# Altium integrated library Lattice iCE40.IntLib: 53 symbols (part 3 of 5)
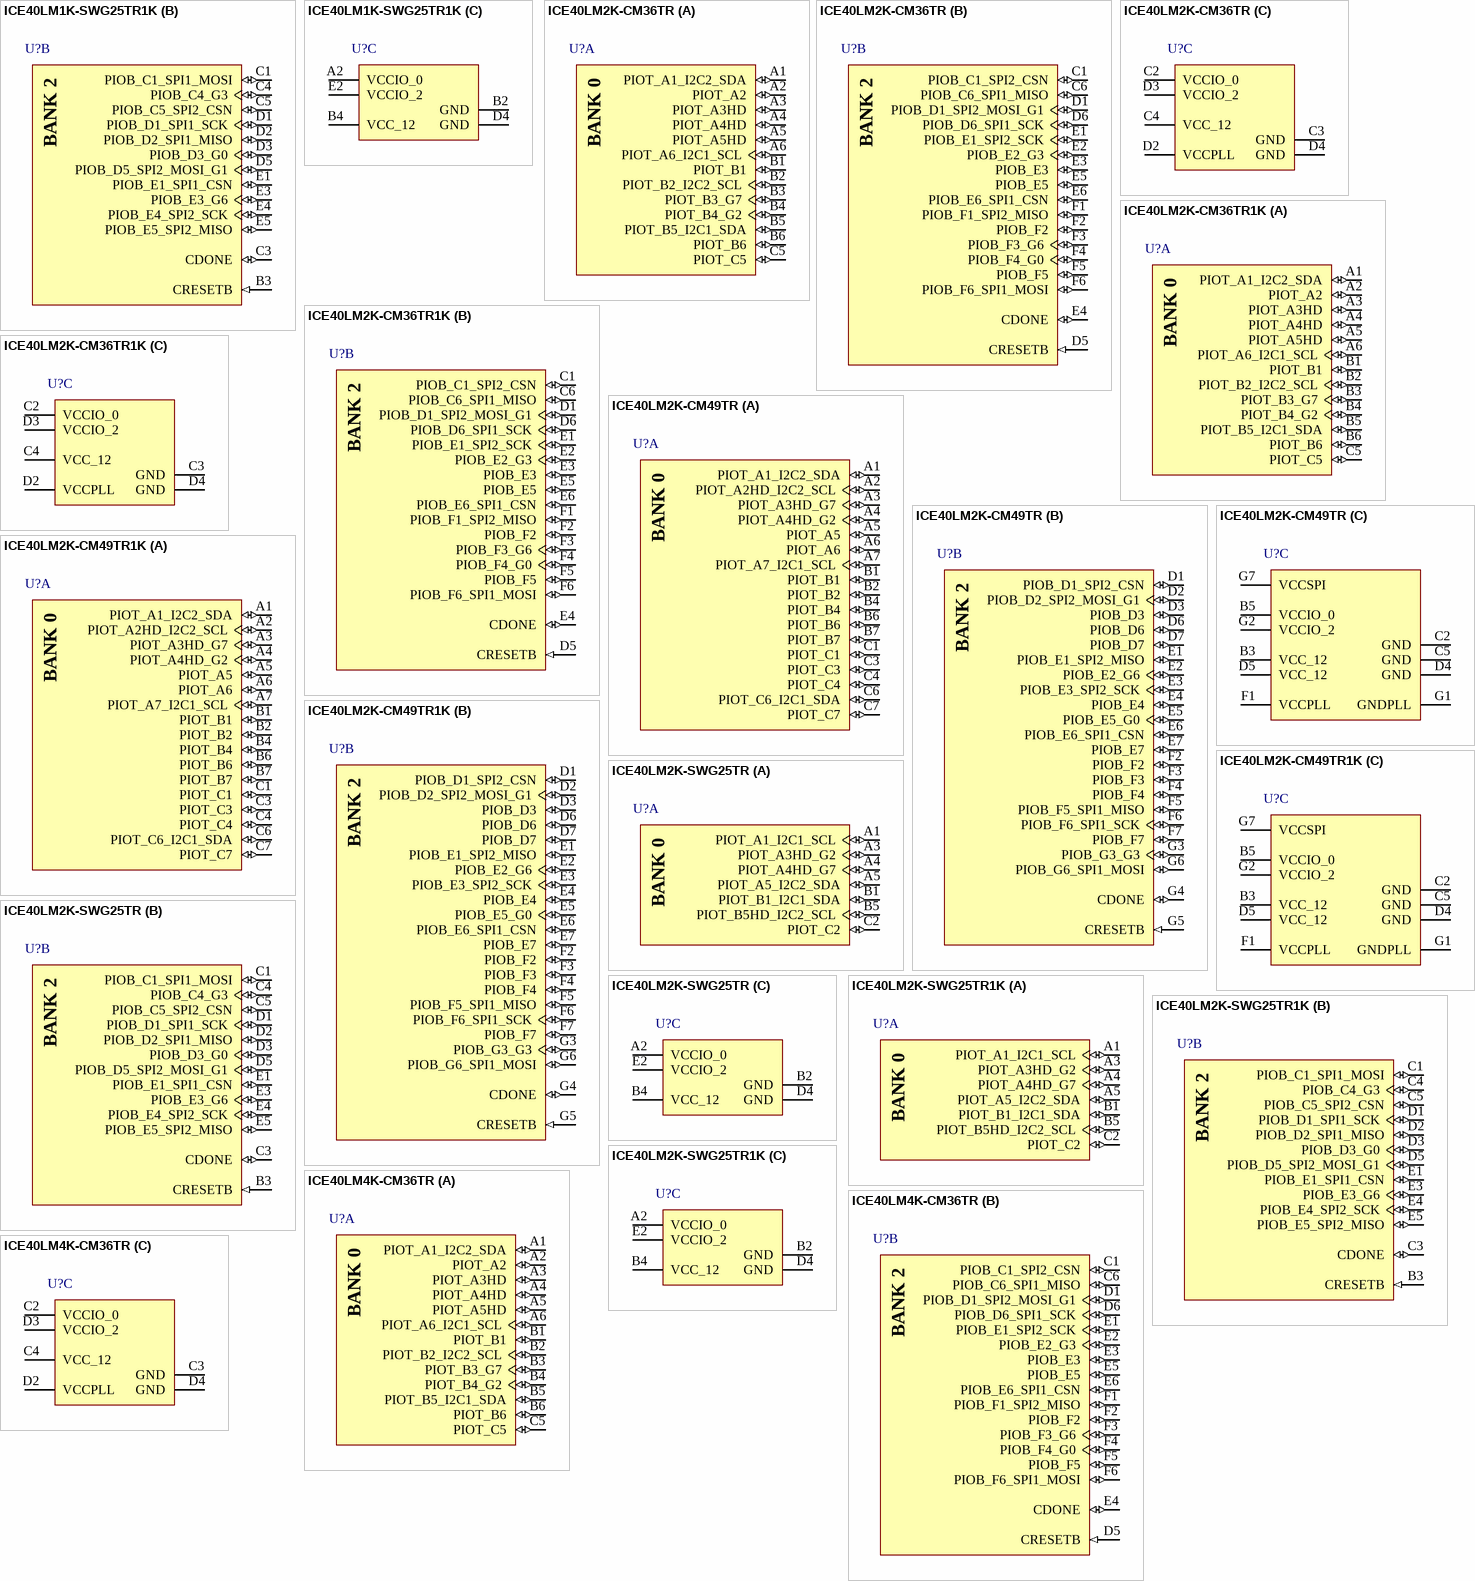
[diagram p13: symbols ICE40LM1K-SWG25TR1K to ICE40LM4K-CM36TR]

## ICE40LM4K-CM36TR
designator U?
iCE40 LM4K Series FPGA Family, 3520 Logic Cells, 1.2 V Core, 80 K Embedded RAM Bits, 36-ball ucBGA, Pb-Free, Tape and Reel; Manufacturer: Lattice Semiconductor; PartNumber: ICE40LM4K-CM36TR; 24mA Current Sink: 3; Embedded RAM Bits: 80K; High Frequency Strobe Generators: 1; I2C Cores: 2; Logic Cells: 3520; Supply Voltage: 1.2V; DatasheetVersion: Rev. 1.3; PackageVersion: Rev. 03.9, 02/2013; PackageReference: ucBGA-36; PackageDescription: 36-Ball Ultra Chip Ball Grid Array, Body 2.5 x 2.5 mm, Pitch 0.4 mm; Low Power Strobe Generators: 1; Packing: Tape and Reel; Phase-Locked Loops: 1; RoHS: TRUE; SPI Cores: 2; Mounting Technology: Surface Mount; ComponentLink1Description: Manufacturer URL; ComponentLink1URL: http://www.latticesemi.com/en; ComponentLink2Description: Datasheet; ComponentLink2URL: http://www.latticesemi.com/~/media/Documents/DataSheets/iCE/DS1045.pdf; ComponentLink3Description: Package Specification; ComponentLink3URL: http://www.latticesemi.com/lit/docs/package/pkg.pdf
footprint LATC-ucBGA-36 (ucBGA, 36-Balls, Body 2.5x2.5mm, Pitch 0.4mm)
part A pins: A1 PIOT_A1_I2C2_SDA (io), A2 PIOT_A2 (io), A3 PIOT_A3HD (io), A4 PIOT_A4HD (io), A5 PIOT_A5HD (io), A6 PIOT_A6_I2C1_SCL (io), B1 PIOT_B1 (io), B2 PIOT_B2_I2C2_SCL (io), B3 PIOT_B3_G7 (io), B4 PIOT_B4_G2 (io), B5 PIOT_B5_I2C1_SDA (io), B6 PIOT_B6 (io), C5 PIOT_C5 (io)
part B pins: C1 PIOB_C1_SPI2_CSN (io), C6 PIOB_C6_SPI1_MISO (io), D1 PIOB_D1_SPI2_MOSI_G1 (io), D5 CRESETB (in) "Configuration Reset, active LOW. No internal pull-up resistor. Either actively driven externally or connect an 10K-ohm pull-up resistor to VCCIO_2.", D6 PIOB_D6_SPI1_SCK (io), E1 PIOB_E1_SPI2_SCK (io), E2 PIOB_E2_G3 (io), E3 PIOB_E3 (io), E4 CDONE (io) "Configuration Done. Includes a weak pull-up resistor to VCCIO_2.", E5 PIOB_E5 (io), E6 PIOB_E6_SPI1_CSN (io), F1 PIOB_F1_SPI2_MISO (io), F2 PIOB_F2 (io), F3 PIOB_F3_G6 (io), F4 PIOB_F4_G0 (io), F5 PIOB_F5 (io), F6 PIOB_F6_SPI1_MOSI (io)
part C pins: C2 VCCIO_0 (power) "Power Supply for I/Os in Bank 0", C3 GND (power) "Ground", C4 VCC_12 (power), D2 VCCPLL (power) "Power supply for PLL.", D3 VCCIO_2 (power) "Power Supply for I/Os in Bank 2", D4 GND (power) "Ground"
part A text: BANK 0
part B text: BANK 2

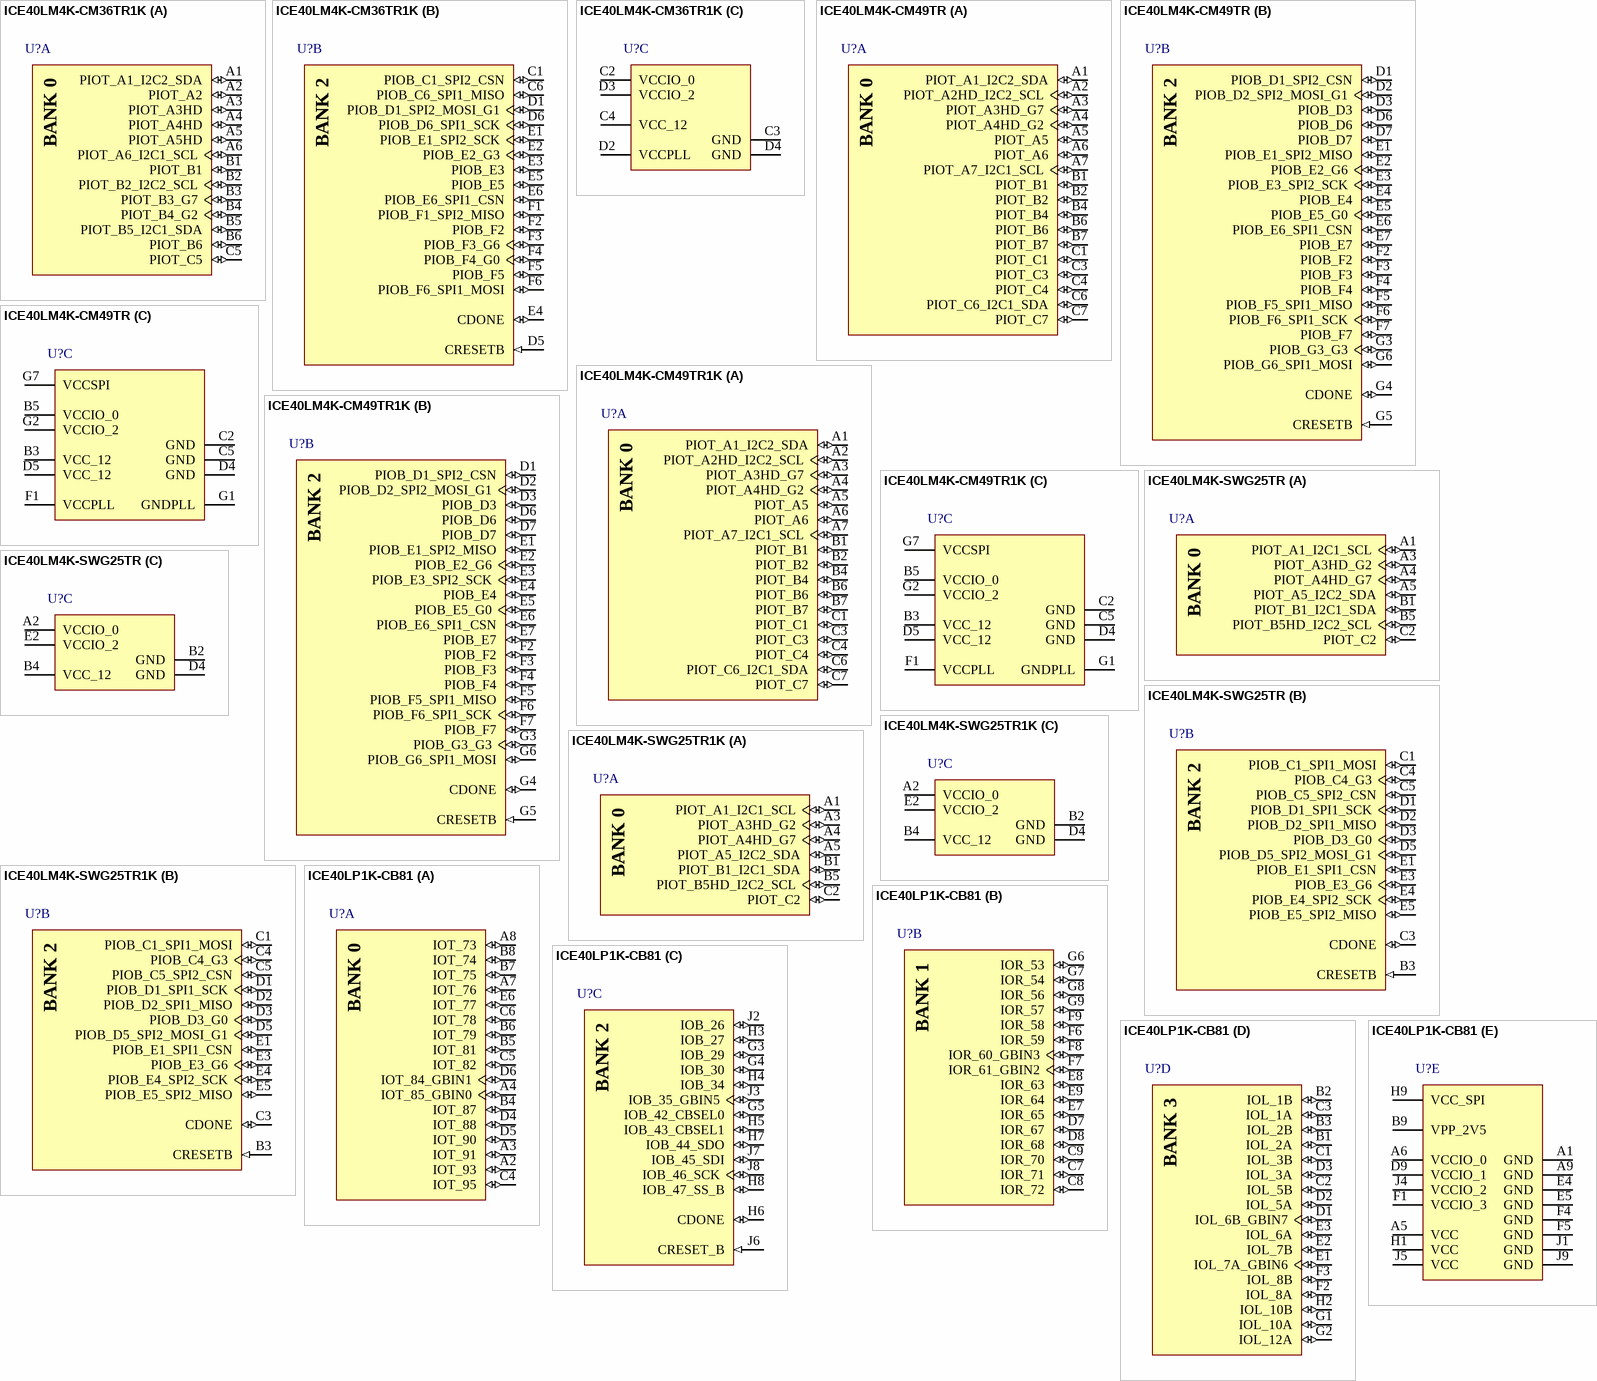
[diagram p5: symbols ICE40LM4K-CM36TR1K to ICE40LP1K-CB81]

## ICE40LM4K-CM36TR1K
designator U?
iCE40 LM4K Series FPGA Family, 3520 Logic Cells, 1.2 V Core, 80 K Embedded RAM Bits, 36-ball ucBGA, Pb-Free, Tape and Reel; Manufacturer: Lattice Semiconductor; PartNumber: ICE40LM4K-CM36TR1K; 24mA Current Sink: 3; Embedded RAM Bits: 80K; High Frequency Strobe Generators: 1; I2C Cores: 2; Logic Cells: 3520; Supply Voltage: 1.2V; DatasheetVersion: Rev. 1.3; PackageVersion: Rev. 03.9, 02/2013; PackageReference: ucBGA-36; PackageDescription: 36-Ball Ultra Chip Ball Grid Array, Body 2.5 x 2.5 mm, Pitch 0.4 mm; Low Power Strobe Generators: 1; Packing: Tape and Reel; Phase-Locked Loops: 1; RoHS: TRUE; SPI Cores: 2; Mounting Technology: Surface Mount; ComponentLink1Description: Manufacturer URL; ComponentLink1URL: http://www.latticesemi.com/en; ComponentLink2Description: Datasheet; ComponentLink2URL: http://www.latticesemi.com/~/media/Documents/DataSheets/iCE/DS1045.pdf; ComponentLink3Description: Package Specification; ComponentLink3URL: http://www.latticesemi.com/lit/docs/package/pkg.pdf
footprint LATC-ucBGA-36 (ucBGA, 36-Balls, Body 2.5x2.5mm, Pitch 0.4mm)
part A pins: A1 PIOT_A1_I2C2_SDA (io), A2 PIOT_A2 (io), A3 PIOT_A3HD (io), A4 PIOT_A4HD (io), A5 PIOT_A5HD (io), A6 PIOT_A6_I2C1_SCL (io), B1 PIOT_B1 (io), B2 PIOT_B2_I2C2_SCL (io), B3 PIOT_B3_G7 (io), B4 PIOT_B4_G2 (io), B5 PIOT_B5_I2C1_SDA (io), B6 PIOT_B6 (io), C5 PIOT_C5 (io)
part B pins: C1 PIOB_C1_SPI2_CSN (io), C6 PIOB_C6_SPI1_MISO (io), D1 PIOB_D1_SPI2_MOSI_G1 (io), D5 CRESETB (in) "Configuration Reset, active LOW. No internal pull-up resistor. Either actively driven externally or connect an 10K-ohm pull-up resistor to VCCIO_2.", D6 PIOB_D6_SPI1_SCK (io), E1 PIOB_E1_SPI2_SCK (io), E2 PIOB_E2_G3 (io), E3 PIOB_E3 (io), E4 CDONE (io) "Configuration Done. Includes a weak pull-up resistor to VCCIO_2.", E5 PIOB_E5 (io), E6 PIOB_E6_SPI1_CSN (io), F1 PIOB_F1_SPI2_MISO (io), F2 PIOB_F2 (io), F3 PIOB_F3_G6 (io), F4 PIOB_F4_G0 (io), F5 PIOB_F5 (io), F6 PIOB_F6_SPI1_MOSI (io)
part C pins: C2 VCCIO_0 (power) "Power Supply for I/Os in Bank 0", C3 GND (power) "Ground", C4 VCC_12 (power), D2 VCCPLL (power) "Power supply for PLL.", D3 VCCIO_2 (power) "Power Supply for I/Os in Bank 2", D4 GND (power) "Ground"
part A text: BANK 0
part B text: BANK 2

## ICE40LM4K-CM49TR
designator U?
iCE40 LM4K Series FPGA Family, 3520 Logic Cells, 1.2 V Core, 80 K Embedded RAM Bits, 49-ball ucBGA, Pb-Free, Tape and Reel; Manufacturer: Lattice Semiconductor; PartNumber: ICE40LM4K-CM49TR; 24mA Current Sink: 3; Embedded RAM Bits: 80K; High Frequency Strobe Generators: 1; I2C Cores: 2; Logic Cells: 3520; Supply Voltage: 1.2V; DatasheetVersion: Rev. 1.3; PackageVersion: Rev. 03.9, 02/2013; PackageReference: ucBGA-49; PackageDescription: 49-Ball Ultra Chip Ball Grid Array, Body 3 x 3 mm, Pitch 0.4 mm; Low Power Strobe Generators: 1; Packing: Tape and Reel; Phase-Locked Loops: 1; RoHS: TRUE; SPI Cores: 2; Mounting Technology: Surface Mount; ComponentLink1Description: Manufacturer URL; ComponentLink1URL: http://www.latticesemi.com/en; ComponentLink2Description: Datasheet; ComponentLink2URL: http://www.latticesemi.com/~/media/Documents/DataSheets/iCE/DS1045.pdf; ComponentLink3Description: Package Specification; ComponentLink3URL: http://www.latticesemi.com/lit/docs/package/pkg.pdf
footprint LATC-ucBGA-49 (BGA, 49-Balls, Body 3x3mm, Pitch 0.4mm)
part A pins: A1 PIOT_A1_I2C2_SDA (io), A2 PIOT_A2HD_I2C2_SCL (io), A3 PIOT_A3HD_G7 (io), A4 PIOT_A4HD_G2 (io), A5 PIOT_A5 (io), A6 PIOT_A6 (io), A7 PIOT_A7_I2C1_SCL (io), B1 PIOT_B1 (io), B2 PIOT_B2 (io), B4 PIOT_B4 (io), B6 PIOT_B6 (io), B7 PIOT_B7 (io), C1 PIOT_C1 (io), C3 PIOT_C3 (io), C4 PIOT_C4 (io), C6 PIOT_C6_I2C1_SDA (io), C7 PIOT_C7 (io)
part B pins: D1 PIOB_D1_SPI2_CSN (io), D2 PIOB_D2_SPI2_MOSI_G1 (io), D3 PIOB_D3 (io), D6 PIOB_D6 (io), D7 PIOB_D7 (io), E1 PIOB_E1_SPI2_MISO (io), E2 PIOB_E2_G6 (io), E3 PIOB_E3_SPI2_SCK (io), E4 PIOB_E4 (io), E5 PIOB_E5_G0 (io), E6 PIOB_E6_SPI1_CSN (io), E7 PIOB_E7 (io), F2 PIOB_F2 (io), F3 PIOB_F3 (io), F4 PIOB_F4 (io), F5 PIOB_F5_SPI1_MISO (io), F6 PIOB_F6_SPI1_SCK (io), F7 PIOB_F7 (io), G3 PIOB_G3_G3 (io), G4 CDONE (io) "Configuration Done. Includes a weak pull-up resistor to VCCIO_2.", G5 CRESETB (in) "Configuration Reset, active LOW. No internal pull-up resistor. Either actively driven externally or connect an 10K-ohm pull-up resistor to VCCIO_2.", G6 PIOB_G6_SPI1_MOSI (io)
part C pins: B3 VCC_12 (power), B5 VCCIO_0 (power) "Power Supply for I/Os in Bank 0", C2 GND (power) "Ground", C5 GND (power) "Ground", D4 GND (power) "Ground", D5 VCC_12 (power), F1 VCCPLL (power) "Power supply for PLL.", G1 GNDPLL (power) "Ground", G2 VCCIO_2 (power) "Power Supply for I/Os in Bank 2", G7 VCCSPI (power) "Power supply for SPI1 ports."
part A text: BANK 0
part B text: BANK 2

## ICE40LM4K-CM49TR1K
designator U?
iCE40 LM4K Series FPGA Family, 3520 Logic Cells, 1.2 V Core, 80 K Embedded RAM Bits, 49-ball ucBGA, Pb-Free, Tape and Reel; Manufacturer: Lattice Semiconductor; PartNumber: ICE40LM4K-CM49TR1K; 24mA Current Sink: 3; Embedded RAM Bits: 80K; High Frequency Strobe Generators: 1; I2C Cores: 2; Logic Cells: 3520; Supply Voltage: 1.2V; DatasheetVersion: Rev. 1.3; PackageVersion: Rev. 03.9, 02/2013; PackageReference: ucBGA-49; PackageDescription: 49-Ball Ultra Chip Ball Grid Array, Body 3 x 3 mm, Pitch 0.4 mm; Low Power Strobe Generators: 1; Packing: Tape and Reel; Phase-Locked Loops: 1; RoHS: TRUE; SPI Cores: 2; Mounting Technology: Surface Mount; ComponentLink1Description: Manufacturer URL; ComponentLink1URL: http://www.latticesemi.com/en; ComponentLink2Description: Datasheet; ComponentLink2URL: http://www.latticesemi.com/~/media/Documents/DataSheets/iCE/DS1045.pdf; ComponentLink3Description: Package Specification; ComponentLink3URL: http://www.latticesemi.com/lit/docs/package/pkg.pdf
footprint LATC-ucBGA-49 (BGA, 49-Balls, Body 3x3mm, Pitch 0.4mm)
part A pins: A1 PIOT_A1_I2C2_SDA (io), A2 PIOT_A2HD_I2C2_SCL (io), A3 PIOT_A3HD_G7 (io), A4 PIOT_A4HD_G2 (io), A5 PIOT_A5 (io), A6 PIOT_A6 (io), A7 PIOT_A7_I2C1_SCL (io), B1 PIOT_B1 (io), B2 PIOT_B2 (io), B4 PIOT_B4 (io), B6 PIOT_B6 (io), B7 PIOT_B7 (io), C1 PIOT_C1 (io), C3 PIOT_C3 (io), C4 PIOT_C4 (io), C6 PIOT_C6_I2C1_SDA (io), C7 PIOT_C7 (io)
part B pins: D1 PIOB_D1_SPI2_CSN (io), D2 PIOB_D2_SPI2_MOSI_G1 (io), D3 PIOB_D3 (io), D6 PIOB_D6 (io), D7 PIOB_D7 (io), E1 PIOB_E1_SPI2_MISO (io), E2 PIOB_E2_G6 (io), E3 PIOB_E3_SPI2_SCK (io), E4 PIOB_E4 (io), E5 PIOB_E5_G0 (io), E6 PIOB_E6_SPI1_CSN (io), E7 PIOB_E7 (io), F2 PIOB_F2 (io), F3 PIOB_F3 (io), F4 PIOB_F4 (io), F5 PIOB_F5_SPI1_MISO (io), F6 PIOB_F6_SPI1_SCK (io), F7 PIOB_F7 (io), G3 PIOB_G3_G3 (io), G4 CDONE (io) "Configuration Done. Includes a weak pull-up resistor to VCCIO_2.", G5 CRESETB (in) "Configuration Reset, active LOW. No internal pull-up resistor. Either actively driven externally or connect an 10K-ohm pull-up resistor to VCCIO_2.", G6 PIOB_G6_SPI1_MOSI (io)
part C pins: B3 VCC_12 (power), B5 VCCIO_0 (power) "Power Supply for I/Os in Bank 0", C2 GND (power) "Ground", C5 GND (power) "Ground", D4 GND (power) "Ground", D5 VCC_12 (power), F1 VCCPLL (power) "Power supply for PLL.", G1 GNDPLL (power) "Ground", G2 VCCIO_2 (power) "Power Supply for I/Os in Bank 2", G7 VCCSPI (power) "Power supply for SPI1 ports."
part A text: BANK 0
part B text: BANK 2

## ICE40LM4K-SWG25TR
designator U?
iCE40 LM4K Series FPGA Family, 3520 Logic Cells, 1.2 V Core, 80 K Embedded RAM Bits, 25-ball WLCSP, Pb-Free, Tape and Reel; Manufacturer: Lattice Semiconductor; PartNumber: ICE40LM4K-SWG25TR; 24mA Current Sink: 3; Embedded RAM Bits: 80K; High Frequency Strobe Generators: 1; I2C Cores: 2; Logic Cells: 3520; Supply Voltage: 1.2V; DatasheetVersion: Rev. 1.3; PackageVersion: Rev. 03.9, 02/2013; PackageReference: WLCSP-25; PackageDescription: 25-Ball Wafer-Level Chip Scale Package, Body 1.71 x 1.71 mm, Pitch 0.35 mm; Supplier 1: Digi-Key; Supplier Part Number 1: ICE40LM4K-SWG25TR-ND; Supplier 2: Mouser; Supplier Part Number 2: 842-ICE40LM4KSWG25TR; Low Power Strobe Generators: 1; Packing: Tape and Reel; Phase-Locked Loops: 1; RoHS: TRUE; SPI Cores: 2; Mounting Technology: Surface Mount; ComponentLink1Description: Manufacturer URL; ComponentLink1URL: http://www.latticesemi.com/en; ComponentLink2Description: Datasheet; ComponentLink2URL: http://www.latticesemi.com/~/media/Documents/DataSheets/iCE/DS1045.pdf; ComponentLink3Description: Package Specification; ComponentLink3URL: http://www.latticesemi.com/lit/docs/package/pkg.pdf
footprint LATC-WLCSP-25 (BGA, 25-Balls, Body 1.71x1.71mm, Pitch 0.35mm)
part A pins: A1 PIOT_A1_I2C1_SCL (io), A3 PIOT_A3HD_G2 (io), A4 PIOT_A4HD_G7 (io), A5 PIOT_A5_I2C2_SDA (io), B1 PIOT_B1_I2C1_SDA (io), B5 PIOT_B5HD_I2C2_SCL (io), C2 PIOT_C2 (io)
part B pins: B3 CRESETB (in) "Configuration Reset, active LOW. No internal pull-up resistor. Either actively driven externally or connect an 10K-ohm pull-up resistor to VCCIO_2.", C1 PIOB_C1_SPI1_MOSI (io), C3 CDONE (io) "Configuration Done. Includes a weak pull-up resistor to VCCIO_2.", C4 PIOB_C4_G3 (io), C5 PIOB_C5_SPI2_CSN (io), D1 PIOB_D1_SPI1_SCK (io), D2 PIOB_D2_SPI1_MISO (io), D3 PIOB_D3_G0 (io), D5 PIOB_D5_SPI2_MOSI_G1 (io), E1 PIOB_E1_SPI1_CSN (io), E3 PIOB_E3_G6 (io), E4 PIOB_E4_SPI2_SCK (io), E5 PIOB_E5_SPI2_MISO (io)
part C pins: A2 VCCIO_0 (power) "Power Supply for I/Os in Bank 0", B2 GND (power) "Ground", B4 VCC_12 (power) "Core Power Supply", D4 GND (power) "Ground", E2 VCCIO_2 (power) "Power Supply for I/Os in Bank 2"
part A text: BANK 0
part B text: BANK 2

## ICE40LM4K-SWG25TR1K
designator U?
iCE40 LM4K Series FPGA Family, 3520 Logic Cells, 1.2 V Core, 80 K Embedded RAM Bits, 25-ball WLCSP, Pb-Free, Tape and Reel; Manufacturer: Lattice Semiconductor; PartNumber: ICE40LM4K-SWG25TR1K; 24mA Current Sink: 3; Embedded RAM Bits: 80K; High Frequency Strobe Generators: 1; I2C Cores: 2; Logic Cells: 3520; Supply Voltage: 1.2V; DatasheetVersion: Rev. 1.3; PackageVersion: Rev. 03.9, 02/2013; PackageReference: WLCSP-25; PackageDescription: 25-Ball Wafer-Level Chip Scale Package, Body 1.71 x 1.71 mm, Pitch 0.35 mm; Supplier 1: Digi-Key; Supplier Part Number 1: ICE40LM4K-SWG25TR1K-ND; Supplier 2: Mouser; Supplier Part Number 2: 842-E40LM4KSWG25TR1K; Low Power Strobe Generators: 1; Packing: Tape and Reel; Phase-Locked Loops: 1; RoHS: TRUE; SPI Cores: 2; Mounting Technology: Surface Mount; ComponentLink1Description: Manufacturer URL; ComponentLink1URL: http://www.latticesemi.com/en; ComponentLink2Description: Datasheet; ComponentLink2URL: http://www.latticesemi.com/~/media/Documents/DataSheets/iCE/DS1045.pdf; ComponentLink3Description: Package Specification; ComponentLink3URL: http://www.latticesemi.com/lit/docs/package/pkg.pdf
footprint LATC-WLCSP-25 (BGA, 25-Balls, Body 1.71x1.71mm, Pitch 0.35mm)
part A pins: A1 PIOT_A1_I2C1_SCL (io), A3 PIOT_A3HD_G2 (io), A4 PIOT_A4HD_G7 (io), A5 PIOT_A5_I2C2_SDA (io), B1 PIOT_B1_I2C1_SDA (io), B5 PIOT_B5HD_I2C2_SCL (io), C2 PIOT_C2 (io)
part B pins: B3 CRESETB (in) "Configuration Reset, active LOW. No internal pull-up resistor. Either actively driven externally or connect an 10K-ohm pull-up resistor to VCCIO_2.", C1 PIOB_C1_SPI1_MOSI (io), C3 CDONE (io) "Configuration Done. Includes a weak pull-up resistor to VCCIO_2.", C4 PIOB_C4_G3 (io), C5 PIOB_C5_SPI2_CSN (io), D1 PIOB_D1_SPI1_SCK (io), D2 PIOB_D2_SPI1_MISO (io), D3 PIOB_D3_G0 (io), D5 PIOB_D5_SPI2_MOSI_G1 (io), E1 PIOB_E1_SPI1_CSN (io), E3 PIOB_E3_G6 (io), E4 PIOB_E4_SPI2_SCK (io), E5 PIOB_E5_SPI2_MISO (io)
part C pins: A2 VCCIO_0 (power) "Power Supply for I/Os in Bank 0", B2 GND (power) "Ground", B4 VCC_12 (power) "Core Power Supply", D4 GND (power) "Ground", E2 VCCIO_2 (power) "Power Supply for I/Os in Bank 2"
part A text: BANK 0
part B text: BANK 2

## ICE40LP1K-CB81
designator U?
iCE40 LP1K Series FPGA Family, 1280 Logic Cells, 1.2 V Core, 64 K Embedded RAM Bits, 81-ball csBGA, Pb-Free, Tray; Manufacturer: Lattice Semiconductor; PartNumber: ICE40LP1K-CB81; Embedded RAM Bits: 64K; Logic Cells: 1280; Phase-Locked Loops: 0; Supply Voltage: 1.2 V; DatasheetVersion: Rev. 02.9; PackageVersion: Rev. 03.9, 02/2013; PackageReference: csBGA-81; PackageDescription: 81-Ball Chip Scale Ball Grid Array, Body 5 x 5 mm, Pitch 0.5 mm; Supplier 1: Digi-Key; Supplier Part Number 1: 220-2622-ND; Supplier 2: Mouser; Supplier Part Number 2: 842-ICE40LP1K-CB81; Packing: Tray; RoHS: TRUE; Mounting Technology: Surface Mount; ComponentLink1Description: Manufacturer URL; ComponentLink1URL: http://www.latticesemi.com/en; ComponentLink2Description: Datasheet; ComponentLink2URL: http://www.latticesemi.com/~/media/Documents/DataSheets/iCE/iCE40LPHXFamilyDataSheet.pdf; ComponentLink3Description: Package Specification; ComponentLink3URL: http://www.latticesemi.com/lit/docs/package/pkg.pdf
footprint LATC-csBGA-81 (BGA, 81-Balls, Body 5x5mm, Pitch 0.5mm)
part A pins: A2 IOT_93 (io), A3 IOT_91 (io), A4 IOT_85_GBIN0 (io), A7 IOT_76 (io), A8 IOT_73 (io), B4 IOT_87 (io), B5 IOT_81 (io), B6 IOT_79 (io), B7 IOT_75 (io), B8 IOT_74 (io), C4 IOT_95 (io), C5 IOT_82 (io), C6 IOT_78 (io), D4 IOT_88 (io), D5 IOT_90 (io), D6 IOT_84_GBIN1 (io), E6 IOT_77 (io)
part B pins: C7 IOR_71 (io), C8 IOR_72 (io), C9 IOR_70 (io), D7 IOR_67 (io), D8 IOR_68 (io), E7 IOR_65 (io), E8 IOR_63 (io), E9 IOR_64 (io), F6 IOR_59 (io), F7 IOR_61_GBIN2 (io), F8 IOR_60_GBIN3 (io), F9 IOR_58 (io), G6 IOR_53 (io), G7 IOR_54 (io), G8 IOR_56 (io), G9 IOR_57 (io)
part C pins: G3 IOB_29 (io), G4 IOB_30 (io), G5 IOB_42_CBSEL0 (io), H3 IOB_27 (io), H4 IOB_34 (io), H5 IOB_43_CBSEL1 (io), H6 CDONE (io) "Configuration Done. Includes a permanent weak pull-up resistor to VCCIO_2. If driving external devices with CDONE output, an external pull-up resistor to VCCIO_2 may be required. Refer to the TN1248, iCE40 Programming and (See Datasheet)", H7 IOB_44_SDO (io), H8 IOB_47_SS_B (io), J2 IOB_26 (io), J3 IOB_35_GBIN5 (io), J6 CRESET_B (in) "Configuration Reset, active Low. Dedicated input. No internal pull-up resistor. Either actively drive externally or connect a 10 KOhm pull-up resistor to VCCIO_2.", J7 IOB_45_SDI (io), J8 IOB_46_SCK (io)
part D pins: B1 IOL_2A (io), B2 IOL_1B (io), B3 IOL_2B (io), C1 IOL_3B (io), C2 IOL_5B (io), C3 IOL_1A (io), D1 IOL_6B_GBIN7 (io), D2 IOL_5A (io), D3 IOL_3A (io), E1 IOL_7A_GBIN6 (io), E2 IOL_7B (io), E3 IOL_6A (io), F2 IOL_8A (io), F3 IOL_8B (io), G1 IOL_10A (io), G2 IOL_12A (io), H2 IOL_10B (io)
part E pins: A1 GND (power) "GND - Ground. Dedicated pins. It is recommended that all GNDs are tied together.", A5 VCC (power) "VCC - The power supply pins for core logic. Dedicated pins. It is recommended that all VCCs are tied to the same supply.", A6 VCCIO_0 (power) "VCCIO - The power supply pins for I/O Bank 0. Dedicated pins. All VCCIOs located in the same bank are tied to the same supply.", A9 GND (power) "GND - Ground. Dedicated pins. It is recommended that all GNDs are tied together.", B9 VPP_2V5 (power) "VPP_2V5 NVCM programming and operating supply", D9 VCCIO_1 (power) "VCCIO - The power supply pins for I/O Bank 1. Dedicated pins. All VCCIOs located in the same bank are tied to the same supply.", E4 GND (power) "GND - Ground. Dedicated pins. It is recommended that all GNDs are tied together.", E5 GND (power) "GND - Ground. Dedicated pins. It is recommended that all GNDs are tied together.", F1 VCCIO_3 (power) "VCCIO - The power supply pins for I/O Bank 3. Dedicated pins. All VCCIOs located in the same bank are tied to the same supply.", F4 GND (power) "GND - Ground. Dedicated pins. It is recommended that all GNDs are tied together.", F5 GND (power) "GND - Ground. Dedicated pins. It is recommended that all GNDs are tied together.", H1 VCC (power) "VCC - The power supply pins for core logic. Dedicated pins. It is recommended that all VCCs are tied to the same supply.", H9 VCC_SPI (power) "SPI interface voltage supply input. Must have a valid voltage even if configuring from NVCM.", J1 GND (power) "GND - Ground. Dedicated pins. It is recommended that all GNDs are tied together.", J4 VCCIO_2 (power) "VCCIO - The power supply pins for I/O Bank 2. Dedicated pins. All VCCIOs located in the same bank are tied to the same supply.", J5 VCC (power) "VCC - The power supply pins for core logic. Dedicated pins. It is recommended that all VCCs are tied to the same supply.", J9 GND (power) "GND - Ground. Dedicated pins. It is recommended that all GNDs are tied together."
part A text: BANK 0
part B text: BANK 1
part C text: BANK 2
part D text: BANK 3

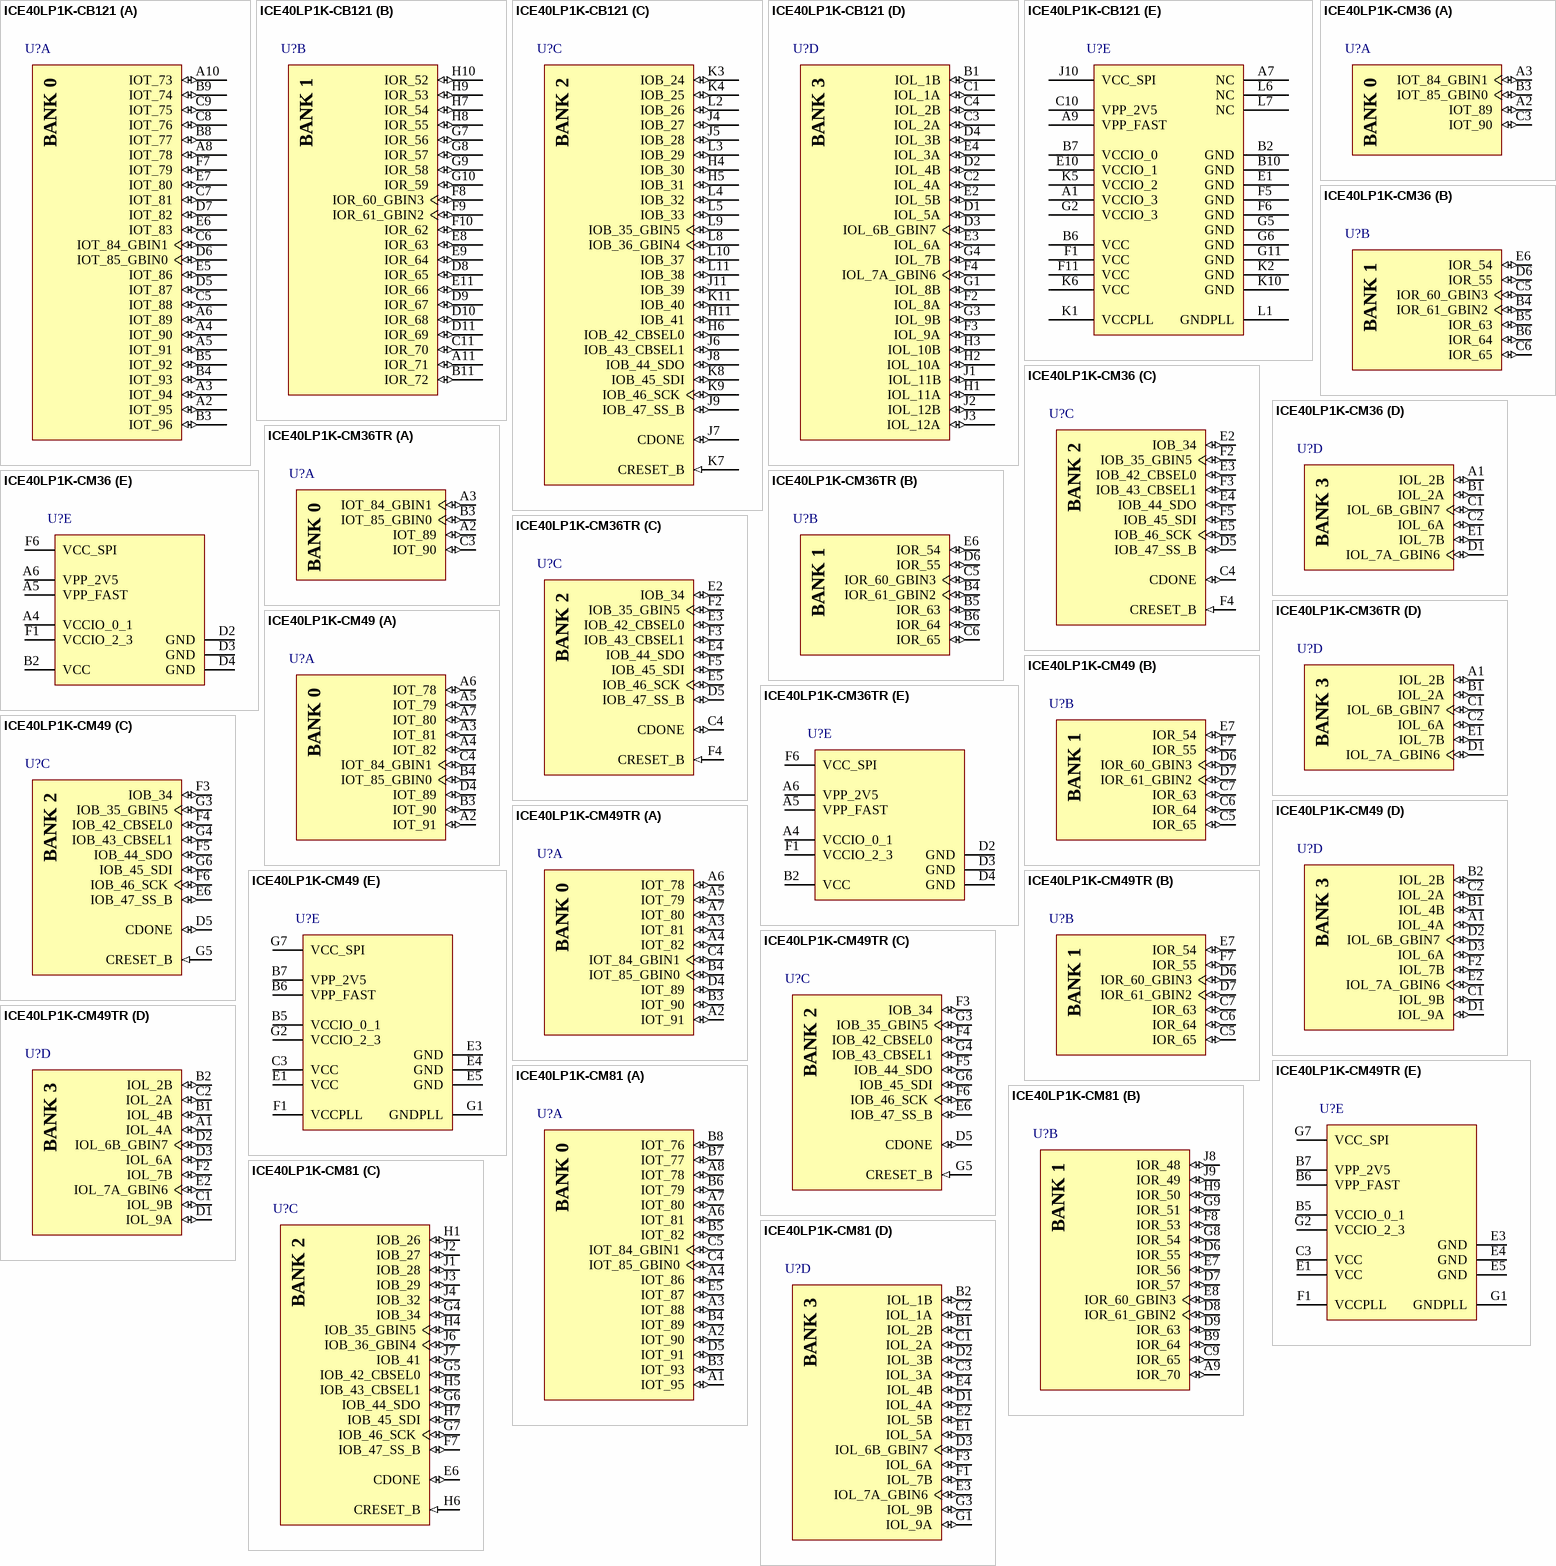
[diagram p6: symbols ICE40LP1K-CB121 to ICE40LP1K-CM81]

## ICE40LP1K-CB121
designator U?
iCE40 LP1K Series FPGA Family, 1280 Logic Cells, 1.2 V Core, 64 K Embedded RAM Bits, 121-ball csBGA, Pb-Free, Tray; Manufacturer: Lattice Semiconductor; PartNumber: ICE40LP1K-CB121; Embedded RAM Bits: 64K; Logic Cells: 1280; Phase-Locked Loops: 1; Supply Voltage: 1.2 V; DatasheetVersion: Rev. 02.9; PackageVersion: Rev. 03.9, 02/2013; PackageReference: csBGA-121; PackageDescription: 121-Ball Chip Scale Ball Grid Array, Body 6 x 6 mm, Pitch 0.5 mm; Supplier 1: Digi-Key; Supplier Part Number 1: 220-2621-ND; Supplier 2: Mouser; Supplier Part Number 2: 842-ICE40LP1K-CB121; Packing: Tray; RoHS: TRUE; Mounting Technology: Surface Mount; ComponentLink1Description: Manufacturer URL; ComponentLink1URL: http://www.latticesemi.com/en; ComponentLink2Description: Datasheet; ComponentLink2URL: http://www.latticesemi.com/~/media/Documents/DataSheets/iCE/iCE40LPHXFamilyDataSheet.pdf; ComponentLink3Description: Package Specification; ComponentLink3URL: http://www.latticesemi.com/lit/docs/package/pkg.pdf
footprint LATC-csBGA-121 (BGA, 121-Balls, Body 6x6mm, Pitch 0.5mm)
part A pins: A2 IOT_95 (io), A3 IOT_94 (io), A4 IOT_90 (io), A5 IOT_91 (io), A6 IOT_89 (io), A8 IOT_78 (io), A10 IOT_73 (io), B3 IOT_96 (io), B4 IOT_93 (io), B5 IOT_92 (io), B8 IOT_77 (io), B9 IOT_74 (io), C5 IOT_88 (io), C6 IOT_84_GBIN1 (io), C7 IOT_81 (io), C8 IOT_76 (io), C9 IOT_75 (io), D5 IOT_87 (io), D6 IOT_85_GBIN0 (io), D7 IOT_82 (io), E5 IOT_86 (io), E6 IOT_83 (io), E7 IOT_80 (io), F7 IOT_79 (io)
part B pins: A11 IOR_71 (io), B11 IOR_72 (io), C11 IOR_70 (io), D8 IOR_65 (io), D9 IOR_67 (io), D10 IOR_68 (io), D11 IOR_69 (io), E8 IOR_63 (io), E9 IOR_64 (io), E11 IOR_66 (io), F8 IOR_60_GBIN3 (io), F9 IOR_61_GBIN2 (io), F10 IOR_62 (io), G7 IOR_56 (io), G8 IOR_57 (io), G9 IOR_58 (io), G10 IOR_59 (io), H7 IOR_54 (io), H8 IOR_55 (io), H9 IOR_53 (io), H10 IOR_52 (io)
part C pins: H4 IOB_30 (io), H5 IOB_31 (io), H6 IOB_42_CBSEL0 (io), H11 IOB_41 (io), J4 IOB_27 (io), J5 IOB_28 (io), J6 IOB_43_CBSEL1 (io), J7 CDONE (io) "Configuration Done. Includes a permanent weak pull-up resistor to VCCIO_2. If driving external devices with CDONE output, an external pull-up resistor to VCCIO_2 may be required. Refer to the TN1248, iCE40 Programming and (See Datasheet)", J8 IOB_44_SDO (io), J9 IOB_47_SS_B (io), J11 IOB_39 (io), K3 IOB_24 (io), K4 IOB_25 (io), K7 CRESET_B (in) "Configuration Reset, active Low. Dedicated input. No internal pull-up resistor. Either actively drive externally or connect a 10 KOhm pull-up resistor to VCCIO_2.", K8 IOB_45_SDI (io), K9 IOB_46_SCK (io), K11 IOB_40 (io), L2 IOB_26 (io), L3 IOB_29 (io), L4 IOB_32 (io), L5 IOB_33 (io), L8 IOB_36_GBIN4 (io), L9 IOB_35_GBIN5 (io), L10 IOB_37 (io), L11 IOB_38 (io)
part D pins: B1 IOL_1B (io), C1 IOL_1A (io), C2 IOL_4A (io), C3 IOL_2A (io), C4 IOL_2B (io), D1 IOL_5A (io), D2 IOL_4B (io), D3 IOL_6B_GBIN7 (io), D4 IOL_3B (io), E2 IOL_5B (io), E3 IOL_6A (io), E4 IOL_3A (io), F2 IOL_8A (io), F3 IOL_9A (io), F4 IOL_7A_GBIN6 (io), G1 IOL_8B (io), G3 IOL_9B (io), G4 IOL_7B (io), H1 IOL_11A (io), H2 IOL_10A (io), H3 IOL_10B (io), J1 IOL_11B (io), J2 IOL_12B (io), J3 IOL_12A (io)
part E pins: A1 VCCIO_3 (power) "VCCIO - The power supply pins for I/O Bank 3. Dedicated pins. All VCCIOs located in the same bank are tied to the same supply.", A7 NC "No connect", A9 VPP_FAST (power) "Optional fast NVCM programming supply. VPP_FAST, used only for fast production programming, must be left floating or unconnected in applications, except CM36 and CM49 packages MUST have the VPP_FAST ball connected to VCCIO_0 (See Datasheet)", B2 GND (power) "GND - Ground. Dedicated pins. It is recommended that all GNDs are tied together.", B6 VCC (power) "VCC - The power supply pins for core logic. Dedicated pins. It is recommended that all VCCs are tied to the same supply.", B7 VCCIO_0 (power) "VCCIO - The power supply pins for I/O Bank 0. Dedicated pins. All VCCIOs located in the same bank are tied to the same supply.", B10 GND (power) "GND - Ground. Dedicated pins. It is recommended that all GNDs are tied together.", C10 VPP_2V5 (power) "VPP_2V5 NVCM programming and operating supply", E1 GND (power) "GND - Ground. Dedicated pins. It is recommended that all GNDs are tied together.", E10 VCCIO_1 (power) "VCCIO - The power supply pins for I/O Bank 1. Dedicated pins. All VCCIOs located in the same bank are tied to the same supply.", F1 VCC (power) "VCC - The power supply pins for core logic. Dedicated pins. It is recommended that all VCCs are tied to the same supply.", F5 GND (power) "GND - Ground. Dedicated pins. It is recommended that all GNDs are tied together.", F6 GND (power) "GND - Ground. Dedicated pins. It is recommended that all GNDs are tied together.", F11 VCC (power) "VCC - The power supply pins for core logic. Dedicated pins. It is recommended that all VCCs are tied to the same supply.", G2 VCCIO_3 (power) "VCCIO - The power supply pins for I/O Bank 3. Dedicated pins. All VCCIOs located in the same bank are tied to the same supply.", G5 GND (power) "GND - Ground. Dedicated pins. It is recommended that all GNDs are tied together.", G6 GND (power) "GND - Ground. Dedicated pins. It is recommended that all GNDs are tied together.", G11 GND (power) "GND - Ground. Dedicated pins. It is recommended that all GNDs are tied together.", J10 VCC_SPI (power) "SPI interface voltage supply input. Must have a valid voltage even if configuring from NVCM.", K1 VCCPLL (power) "PLL VCC - Power. Dedicated pins. The PLL requires a separate power and ground that is quiet and stable to reduce the output clock jitter of the PLL.", K2 GND (power) "GND - Ground. Dedicated pins. It is recommended that all GNDs are tied together.", K5 VCCIO_2 (power) "VCCIO - The power supply pins for I/O Bank 2. Dedicated pins. All VCCIOs located in the same bank are tied to the same supply.", K6 VCC (power) "VCC - The power supply pins for core logic. Dedicated pins. It is recommended that all VCCs are tied to the same supply.", K10 GND (power) "GND - Ground. Dedicated pins. It is recommended that all GNDs are tied together.", L1 GNDPLL (power) "PLL GND - Ground. Dedicated pins. The sysCLOCK PLL has the DC ground connection made on the FPGA, so the external PLL ground connection (GNDPLL) must NOT be connected to the board’s ground.", L6 NC "No connect", L7 NC "No connect"
part A text: BANK 0
part B text: BANK 1
part C text: BANK 2
part D text: BANK 3

## ICE40LP1K-CM36
designator U?
iCE40 LP1K Series FPGA Family, 1280 Logic Cells, 1.2 V Core, 64 K Embedded RAM Bits, 36-ball ucBGA, Pb-Free, Tray; Manufacturer: Lattice Semiconductor; PartNumber: ICE40LP1K-CM36; Embedded RAM Bits: 64K; Logic Cells: 1280; Phase-Locked Loops: 0; Supply Voltage: 1.2 V; DatasheetVersion: Rev. 02.9; PackageVersion: Rev. 03.9, 02/2013; PackageReference: ucBGA-36; PackageDescription: 36-Ball Ultra Chip Ball Grid Array, Body 2.5 x 2.5 mm, Pitch 0.4 mm; Supplier 1: Digi-Key; Supplier Part Number 1: 220-1564-ND; Supplier 2: Farnell; Supplier Part Number 2: 2252861; Supplier 3: Newark; Supplier Part Number 3: 48W5881; Supplier 4: Mouser; Supplier Part Number 4: 842-ICE40LP1K-CM36; Packing: Tray; RoHS: TRUE; Mounting Technology: Surface Mount; ComponentLink1Description: Manufacturer URL; ComponentLink1URL: http://www.latticesemi.com/en; ComponentLink2Description: Datasheet; ComponentLink2URL: http://www.latticesemi.com/~/media/Documents/DataSheets/iCE/iCE40LPHXFamilyDataSheet.pdf; ComponentLink3Description: Package Specification; ComponentLink3URL: http://www.latticesemi.com/lit/docs/package/pkg.pdf
footprint LATC-ucBGA-36 (ucBGA, 36-Balls, Body 2.5x2.5mm, Pitch 0.4mm)
part A pins: A2 IOT_89 (io), A3 IOT_84_GBIN1 (io), B3 IOT_85_GBIN0 (io), C3 IOT_90 (io)
part B pins: B4 IOR_61_GBIN2 (io), B5 IOR_63 (io), B6 IOR_64 (io), C5 IOR_60_GBIN3 (io), C6 IOR_65 (io), D6 IOR_55 (io), E6 IOR_54 (io)
part C pins: C4 CDONE (io) "Configuration Done. Includes a permanent weak pull-up resistor to VCCIO_2. If driving external devices with CDONE output, an external pull-up resistor to VCCIO_2  may be required. Refer to the TN1248, iCE40 Programming and (See Datasheet)", D5 IOB_47_SS_B (io), E2 IOB_34 (io), E3 IOB_42_CBSEL0 (io), E4 IOB_44_SDO (io), E5 IOB_46_SCK (io), F2 IOB_35_GBIN5 (io), F3 IOB_43_CBSEL1 (io), F4 CRESET_B (in) "Configuration Reset, active Low. Dedicated input. No internal pull-up resistor. Either  actively drive externally or connect a 10 KOhm pull-up resistor to VCCIO_2.", F5 IOB_45_SDI (io)
part D pins: A1 IOL_2B (io), B1 IOL_2A (io), C1 IOL_6B_GBIN7 (io), C2 IOL_6A (io), D1 IOL_7A_GBIN6 (io), E1 IOL_7B (io)
part E pins: A4 VCCIO_0_1 (power) "VCCIO - The power supply pins for I/O Bank 0, 1. Dedicated pins. All VCCIOs located  in the same bank are tied to the same supply.", A5 VPP_FAST (power) "Optional fast NVCM programming supply. VPP_FAST, used only for fast production programming, must be left floating or unconnected in applications, except CM36 and CM49 packages MUST have the VPP_FAST ball connected to VCCIO_0 (See Datasheet)", A6 VPP_2V5 (power) "VPP_2V5 NVCM programming and operating supply", B2 VCC (power) "VCC - The power supply pins for core logic. Dedicated pins. It is recommended that all VCCs are tied to the same supply.", D2 GND (power) "GND - Ground. Dedicated pins. It is recommended that all GNDs are tied together", D3 GND (power) "GND - Ground. Dedicated pins. It is recommended that all GNDs are tied together", D4 GND (power) "GND - Ground. Dedicated pins. It is recommended that all GNDs are tied together", F1 VCCIO_2_3 (power) "VCCIO - The power supply pins for I/O Bank 2, 3. Dedicated pins. All VCCIOs located in the same bank are tied to the same supply.", F6 VCC_SPI (power) "SPI interface voltage supply input. Must have a valid voltage even if configuring from NVCM."
part A text: BANK 0
part B text: BANK 1
part C text: BANK 2
part D text: BANK 3

## ICE40LP1K-CM36TR
designator U?
iCE40 LP1K Series FPGA Family, 1280 Logic Cells, 1.2 V Core, 64 K Embedded RAM Bits, 36-ball ucBGA, Pb-Free, Tape and Reel; Manufacturer: Lattice Semiconductor; PartNumber: ICE40LP1K-CM36TR; Embedded RAM Bits: 64K; Logic Cells: 1280; Phase-Locked Loops: 0; Supply Voltage: 1.2 V; DatasheetVersion: Rev. 02.9; PackageVersion: Rev. 03.9, 02/2013; PackageReference: ucBGA-36; PackageDescription: 36-Ball Ultra Chip Ball Grid Array, Body 2.5 x 2.5 mm, Pitch 0.4 mm; Supplier 1: Digi-Key; Supplier Part Number 1: ICE40LP1K-CM36TR-ND; Supplier 2: Mouser; Supplier Part Number 2: 842-ICE40LP1K-CM36TR; Packing: Tape and Reel; RoHS: TRUE; Mounting Technology: Surface Mount; ComponentLink1Description: Manufacturer URL; ComponentLink1URL: http://www.latticesemi.com/en; ComponentLink2Description: Datasheet; ComponentLink2URL: http://www.latticesemi.com/~/media/Documents/DataSheets/iCE/iCE40LPHXFamilyDataSheet.pdf; ComponentLink3Description: Package Specification; ComponentLink3URL: http://www.latticesemi.com/lit/docs/package/pkg.pdf
footprint LATC-ucBGA-36 (ucBGA, 36-Balls, Body 2.5x2.5mm, Pitch 0.4mm)
part A pins: A2 IOT_89 (io), A3 IOT_84_GBIN1 (io), B3 IOT_85_GBIN0 (io), C3 IOT_90 (io)
part B pins: B4 IOR_61_GBIN2 (io), B5 IOR_63 (io), B6 IOR_64 (io), C5 IOR_60_GBIN3 (io), C6 IOR_65 (io), D6 IOR_55 (io), E6 IOR_54 (io)
part C pins: C4 CDONE (io) "Configuration Done. Includes a permanent weak pull-up resistor to VCCIO_2. If driving external devices with CDONE output, an external pull-up resistor to VCCIO_2  may be required. Refer to the TN1248, iCE40 Programming and (See Datasheet)", D5 IOB_47_SS_B (io), E2 IOB_34 (io), E3 IOB_42_CBSEL0 (io), E4 IOB_44_SDO (io), E5 IOB_46_SCK (io), F2 IOB_35_GBIN5 (io), F3 IOB_43_CBSEL1 (io), F4 CRESET_B (in) "Configuration Reset, active Low. Dedicated input. No internal pull-up resistor. Either  actively drive externally or connect a 10 KOhm pull-up resistor to VCCIO_2.", F5 IOB_45_SDI (io)
part D pins: A1 IOL_2B (io), B1 IOL_2A (io), C1 IOL_6B_GBIN7 (io), C2 IOL_6A (io), D1 IOL_7A_GBIN6 (io), E1 IOL_7B (io)
part E pins: A4 VCCIO_0_1 (power) "VCCIO - The power supply pins for I/O Bank 0, 1. Dedicated pins. All VCCIOs located  in the same bank are tied to the same supply.", A5 VPP_FAST (power) "Optional fast NVCM programming supply. VPP_FAST, used only for fast production programming, must be left floating or unconnected in applications, except CM36 and CM49 packages MUST have the VPP_FAST ball connected to VCCIO_0 (See Datasheet)", A6 VPP_2V5 (power) "VPP_2V5 NVCM programming and operating supply", B2 VCC (power) "VCC - The power supply pins for core logic. Dedicated pins. It is recommended that all VCCs are tied to the same supply.", D2 GND (power) "GND - Ground. Dedicated pins. It is recommended that all GNDs are tied together", D3 GND (power) "GND - Ground. Dedicated pins. It is recommended that all GNDs are tied together", D4 GND (power) "GND - Ground. Dedicated pins. It is recommended that all GNDs are tied together", F1 VCCIO_2_3 (power) "VCCIO - The power supply pins for I/O Bank 2, 3. Dedicated pins. All VCCIOs located in the same bank are tied to the same supply.", F6 VCC_SPI (power) "SPI interface voltage supply input. Must have a valid voltage even if configuring from NVCM."
part A text: BANK 0
part B text: BANK 1
part C text: BANK 2
part D text: BANK 3

## ICE40LP1K-CM49
designator U?
iCE40 LP1K Series FPGA Family, 1280 Logic Cells, 1.2 V Core, 64 K Embedded RAM Bits, 49-ball ucBGA, Pb-Free, Tray; Manufacturer: Lattice Semiconductor; PartNumber: ICE40LP1K-CM49; Embedded RAM Bits: 64K; Logic Cells: 1280; Phase-Locked Loops: 0; Supply Voltage: 1.2 V; DatasheetVersion: Rev. 02.9; PackageVersion: Rev. 03.9, 02/2013; PackageReference: ucBGA-49; PackageDescription: 49-Ball Ultra Chip Ball Grid Array, Body 3 x 3 mm, Pitch 0.4 mm; Supplier 1: Digi-Key; Supplier Part Number 1: 220-1563-ND; Supplier 2: Mouser; Supplier Part Number 2: 842-ICE40LP1K-CM49; Packing: Tray; RoHS: TRUE; Mounting Technology: Surface Mount; ComponentLink1Description: Manufacturer URL; ComponentLink1URL: http://www.latticesemi.com/en; ComponentLink2Description: Datasheet; ComponentLink2URL: http://www.latticesemi.com/~/media/Documents/DataSheets/iCE/iCE40LPHXFamilyDataSheet.pdf; ComponentLink3Description: Package Specification; ComponentLink3URL: http://www.latticesemi.com/lit/docs/package/pkg.pdf
footprint LATC-ucBGA-49 (BGA, 49-Balls, Body 3x3mm, Pitch 0.4mm)
part A pins: A2 IOT_91 (io), A3 IOT_81 (io), A4 IOT_82 (io), A5 IOT_79 (io), A6 IOT_78 (io), A7 IOT_80 (io), B3 IOT_90 (io), B4 IOT_85_GBIN0 (io), C4 IOT_84_GBIN1 (io), D4 IOT_89 (io)
part B pins: C5 IOR_65 (io), C6 IOR_64 (io), C7 IOR_63 (io), D6 IOR_60_GBIN3 (io), D7 IOR_61_GBIN2 (io), E7 IOR_54 (io), F7 IOR_55 (io)
part C pins: D5 CDONE (io) "Configuration Done. Includes a permanent weak pull-up resistor to VCCIO_2. If driving external devices with CDONE output, an external pull-up resistor to VCCIO_2  may be required. Refer to the TN1248, iCE40 Programming and (See Datasheet)", E6 IOB_47_SS_B (io), F3 IOB_34 (io), F4 IOB_42_CBSEL0 (io), F5 IOB_44_SDO (io), F6 IOB_46_SCK (io), G3 IOB_35_GBIN5 (io), G4 IOB_43_CBSEL1 (io), G5 CRESET_B (in) "Configuration Reset, active Low. Dedicated input. No internal pull-up resistor. Either  actively drive externally or connect a 10 KOhm pull-up resistor to VCCIO_2.", G6 IOB_45_SDI (io)
part D pins: A1 IOL_4A (io), B1 IOL_4B (io), B2 IOL_2B (io), C1 IOL_9B (io), C2 IOL_2A (io), D1 IOL_9A (io), D2 IOL_6B_GBIN7 (io), D3 IOL_6A (io), E2 IOL_7A_GBIN6 (io), F2 IOL_7B (io)
part E pins: B5 VCCIO_0_1 (power) "VCCIO - The power supply pins for I/O Bank 0, 1. Dedicated pins. All VCCIOs located  in the same bank are tied to the same supply.", B6 VPP_FAST (power) "Optional fast NVCM programming supply. VPP_FAST, used only for fast production programming, must be left floating or unconnected in applications, except CM36 and CM49 packages MUST have the VPP_FAST ball connected to VCCIO_0 (See Datasheet)", B7 VPP_2V5 (power) "VPP_2V5 NVCM programming and operating supply", C3 VCC (power) "VCC - The power supply pins for core logic. Dedicated pins. It is recommended that  all VCCs are tied to the same supply.", E1 VCC (power) "VCC - The power supply pins for core logic. Dedicated pins. It is recommended that  all VCCs are tied to the same supply.", E3 GND (power) "GND - Ground. Dedicated pins. It is recommended that all GNDs are tied together", E4 GND (power) "GND - Ground. Dedicated pins. It is recommended that all GNDs are tied together", E5 GND (power) "GND - Ground. Dedicated pins. It is recommended that all GNDs are tied together", F1 VCCPLL (power) "PLL VCC - Power. Dedicated pins. The PLL requires a separate power and ground that is quiet and stable to reduce the output clock jitter of the PLL.", G1 GNDPLL (power) "PLL GND - Ground. Dedicated pins. The sysCLOCK PLL has the DC ground connection made on the FPGA, so the external PLL ground connection (GNDPLL) must  NOT be connected to the board’s ground.", G2 VCCIO_2_3 (power) "VCCIO - The power supply pins for I/O Bank 2, 3. Dedicated pins. All VCCIOs located in the same bank are tied to the same supply.", G7 VCC_SPI (power) "SPI interface voltage supply input. Must have a valid voltage even if configuring from NVCM."
part A text: BANK 0
part B text: BANK 1
part C text: BANK 2
part D text: BANK 3

## ICE40LP1K-CM49TR
designator U?
iCE40 LP1K Series FPGA Family, 1280 Logic Cells, 1.2 V Core, 64 K Embedded RAM Bits, 49-ball ucBGA, Pb-Free, Tape and Reel; Manufacturer: Lattice Semiconductor; PartNumber: ICE40LP1K-CM49TR; Embedded RAM Bits: 64K; Logic Cells: 1280; Phase-Locked Loops: 1; Supply Voltage: 1.2 V; DatasheetVersion: Rev. 02.9; PackageVersion: Rev. 03.9, 02/2013; PackageReference: ucBGA-49; PackageDescription: 49-Ball Ultra Chip Ball Grid Array, Body 3 x 3 mm, Pitch 0.4 mm; Supplier 1: Digi-Key; Supplier Part Number 1: ICE40LP1K-CM49TR-ND; Supplier 2: Mouser; Supplier Part Number 2: 842-ICE40LP1K-CM49TR; Packing: Tape and Reel; RoHS: TRUE; Mounting Technology: Surface Mount; ComponentLink1Description: Manufacturer URL; ComponentLink1URL: http://www.latticesemi.com/en; ComponentLink2Description: Datasheet; ComponentLink2URL: http://www.latticesemi.com/~/media/Documents/DataSheets/iCE/iCE40LPHXFamilyDataSheet.pdf; ComponentLink3Description: Package Specification; ComponentLink3URL: http://www.latticesemi.com/lit/docs/package/pkg.pdf
footprint LATC-ucBGA-49 (BGA, 49-Balls, Body 3x3mm, Pitch 0.4mm)
part A pins: A2 IOT_91 (io), A3 IOT_81 (io), A4 IOT_82 (io), A5 IOT_79 (io), A6 IOT_78 (io), A7 IOT_80 (io), B3 IOT_90 (io), B4 IOT_85_GBIN0 (io), C4 IOT_84_GBIN1 (io), D4 IOT_89 (io)
part B pins: C5 IOR_65 (io), C6 IOR_64 (io), C7 IOR_63 (io), D6 IOR_60_GBIN3 (io), D7 IOR_61_GBIN2 (io), E7 IOR_54 (io), F7 IOR_55 (io)
part C pins: D5 CDONE (io) "Configuration Done. Includes a permanent weak pull-up resistor to VCCIO_2. If driving external devices with CDONE output, an external pull-up resistor to VCCIO_2  may be required. Refer to the TN1248, iCE40 Programming and (See Datasheet)", E6 IOB_47_SS_B (io), F3 IOB_34 (io), F4 IOB_42_CBSEL0 (io), F5 IOB_44_SDO (io), F6 IOB_46_SCK (io), G3 IOB_35_GBIN5 (io), G4 IOB_43_CBSEL1 (io), G5 CRESET_B (in) "Configuration Reset, active Low. Dedicated input. No internal pull-up resistor. Either  actively drive externally or connect a 10 KOhm pull-up resistor to VCCIO_2.", G6 IOB_45_SDI (io)
part D pins: A1 IOL_4A (io), B1 IOL_4B (io), B2 IOL_2B (io), C1 IOL_9B (io), C2 IOL_2A (io), D1 IOL_9A (io), D2 IOL_6B_GBIN7 (io), D3 IOL_6A (io), E2 IOL_7A_GBIN6 (io), F2 IOL_7B (io)
part E pins: B5 VCCIO_0_1 (power) "VCCIO - The power supply pins for I/O Bank 0, 1. Dedicated pins. All VCCIOs located  in the same bank are tied to the same supply.", B6 VPP_FAST (power) "Optional fast NVCM programming supply. VPP_FAST, used only for fast production programming, must be left floating or unconnected in applications, except CM36 and CM49 packages MUST have the VPP_FAST ball connected to VCCIO_0 (See Datasheet)", B7 VPP_2V5 (power) "VPP_2V5 NVCM programming and operating supply", C3 VCC (power) "VCC - The power supply pins for core logic. Dedicated pins. It is recommended that  all VCCs are tied to the same supply.", E1 VCC (power) "VCC - The power supply pins for core logic. Dedicated pins. It is recommended that  all VCCs are tied to the same supply.", E3 GND (power) "GND - Ground. Dedicated pins. It is recommended that all GNDs are tied together", E4 GND (power) "GND - Ground. Dedicated pins. It is recommended that all GNDs are tied together", E5 GND (power) "GND - Ground. Dedicated pins. It is recommended that all GNDs are tied together", F1 VCCPLL (power) "PLL VCC - Power. Dedicated pins. The PLL requires a separate power and ground that is quiet and stable to reduce the output clock jitter of the PLL.", G1 GNDPLL (power) "PLL GND - Ground. Dedicated pins. The sysCLOCK PLL has the DC ground connection made on the FPGA, so the external PLL ground connection (GNDPLL) must  NOT be connected to the board’s ground.", G2 VCCIO_2_3 (power) "VCCIO - The power supply pins for I/O Bank 2, 3. Dedicated pins. All VCCIOs located in the same bank are tied to the same supply.", G7 VCC_SPI (power) "SPI interface voltage supply input. Must have a valid voltage even if configuring from NVCM."
part A text: BANK 0
part B text: BANK 1
part C text: BANK 2
part D text: BANK 3

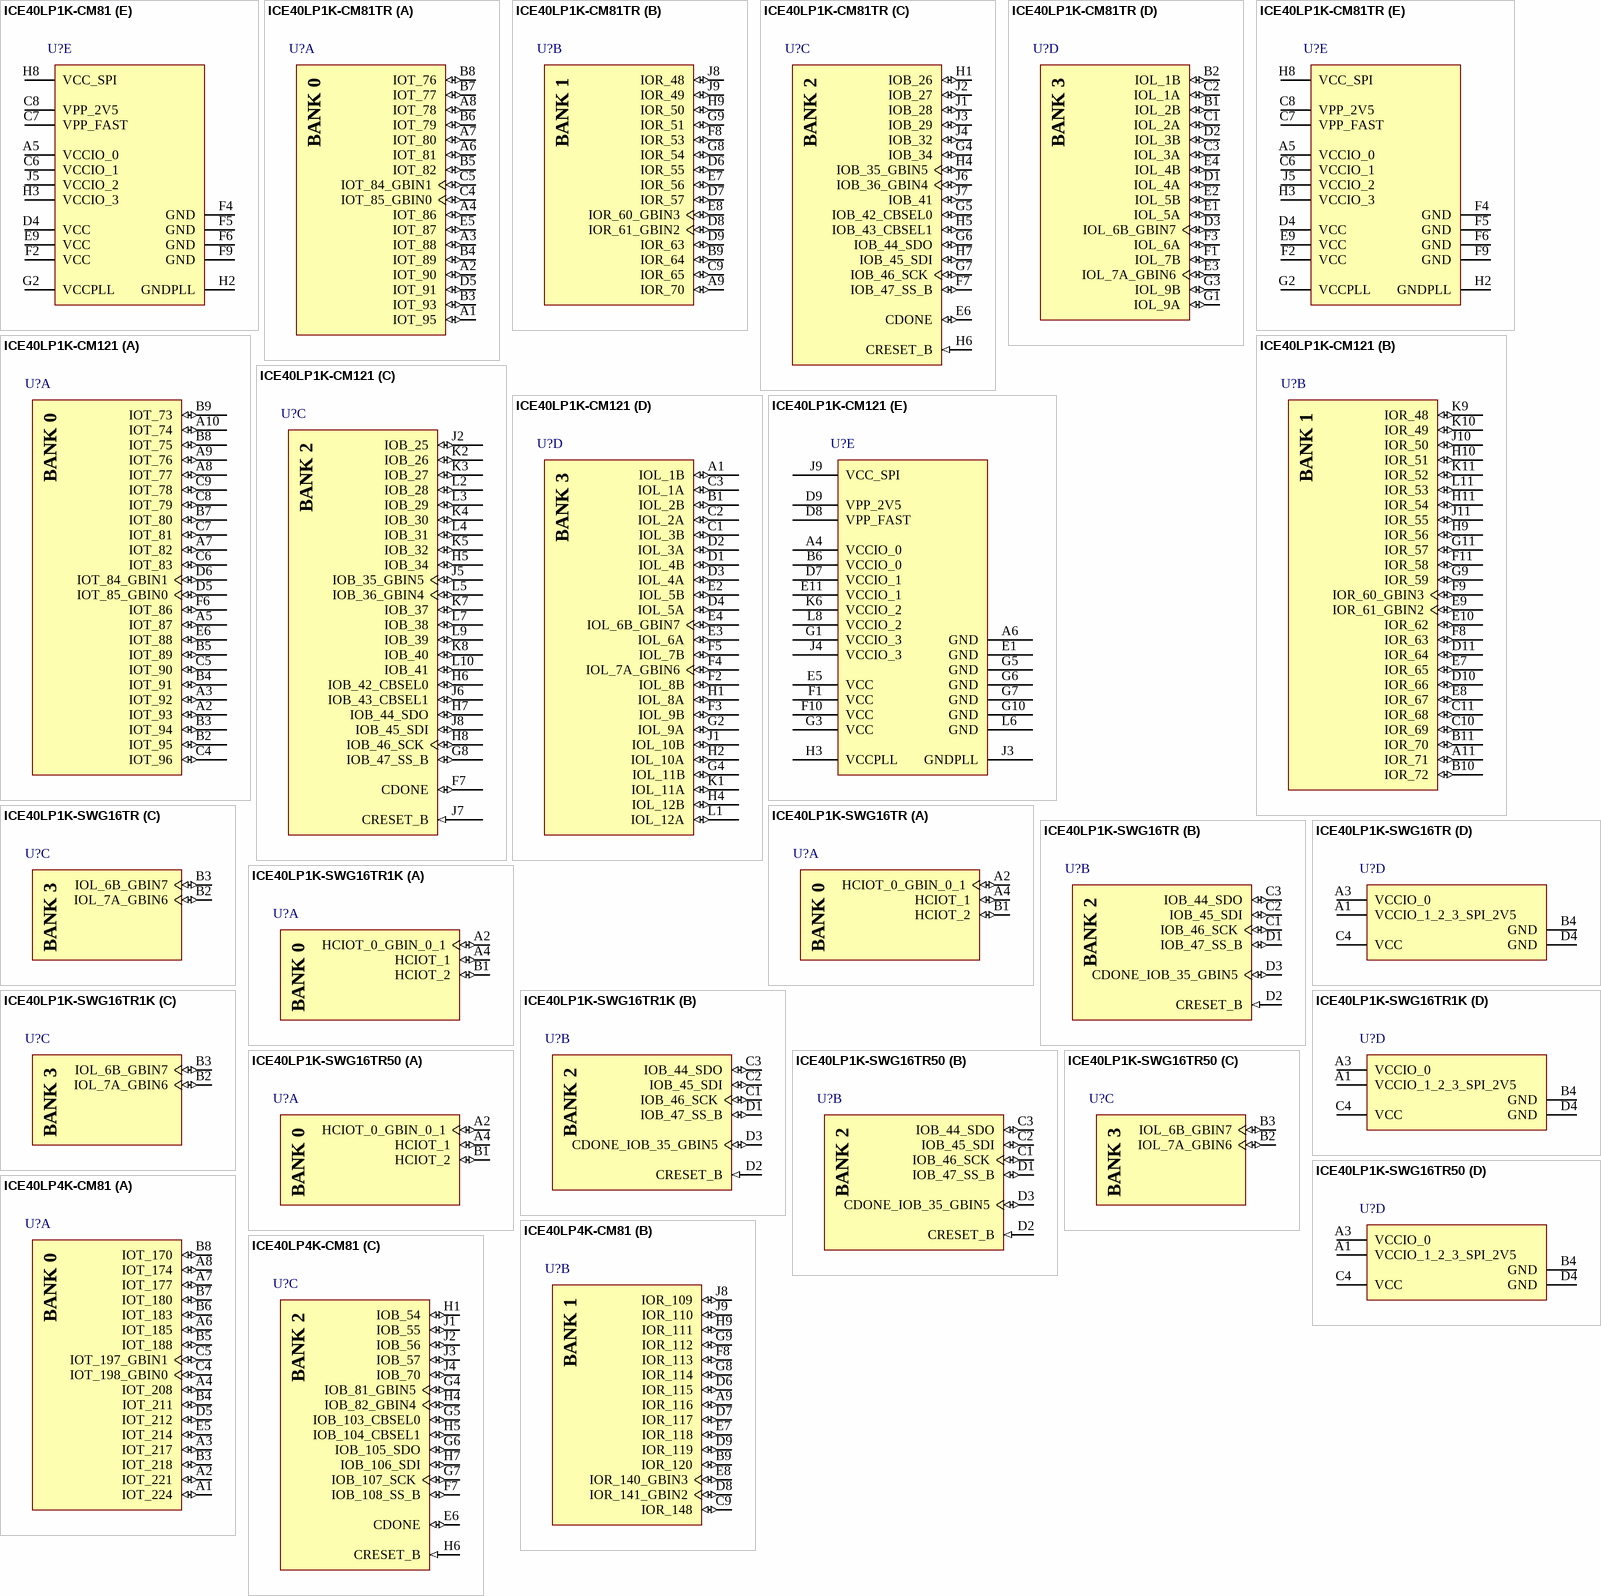
[diagram p7: symbols ICE40LP1K-CM81 to ICE40LP4K-CM81]

## ICE40LP1K-CM81
designator U?
iCE40 LP1K Series FPGA Family, 1280 Logic Cells, 1.2 V Core, 64 K Embedded RAM Bits, 81-ball ucBGA, Pb-Free, Tray; Manufacturer: Lattice Semiconductor; PartNumber: ICE40LP1K-CM81; Embedded RAM Bits: 64K; Logic Cells: 1280; Phase-Locked Loops: 1; Supply Voltage: 1.2 V; DatasheetVersion: Rev. 02.9; PackageVersion: Rev. 03.9, 02/2013; PackageReference: ucBGA-81; PackageDescription: 81-Ball Ultra Chip Ball Grid Array, Body 4 x 4 mm, Pitch 0.4 mm; Supplier 1: Digi-Key; Supplier Part Number 1: 220-1562-ND; Supplier 2: Mouser; Supplier Part Number 2: 842-ICE40LP1K-CM81; Packing: Tray; RoHS: TRUE; Mounting Technology: Surface Mount; ComponentLink1Description: Manufacturer URL; ComponentLink1URL: http://www.latticesemi.com/en; ComponentLink2Description: Datasheet; ComponentLink2URL: http://www.latticesemi.com/~/media/Documents/DataSheets/iCE/iCE40LPHXFamilyDataSheet.pdf; ComponentLink3Description: Package Specification; ComponentLink3URL: http://www.latticesemi.com/lit/docs/package/pkg.pdf
footprint LATC-ucBGA-81 (BGA, 81-Balls, Body 4x4mm, Pitch 0.4mm)
part A pins: A1 IOT_95 (io), A2 IOT_90 (io), A3 IOT_88 (io), A4 IOT_86 (io), A6 IOT_81 (io), A7 IOT_80 (io), A8 IOT_78 (io), B3 IOT_93 (io), B4 IOT_89 (io), B5 IOT_82 (io), B6 IOT_79 (io), B7 IOT_77 (io), B8 IOT_76 (io), C4 IOT_85_GBIN0 (io), C5 IOT_84_GBIN1 (io), D5 IOT_91 (io), E5 IOT_87 (io)
part B pins: A9 IOR_70 (io), B9 IOR_64 (io), C9 IOR_65 (io), D6 IOR_55 (io), D7 IOR_57 (io), D8 IOR_61_GBIN2 (io), D9 IOR_63 (io), E7 IOR_56 (io), E8 IOR_60_GBIN3 (io), F8 IOR_53 (io), G8 IOR_54 (io), G9 IOR_51 (io), H9 IOR_50 (io), J8 IOR_48 (io), J9 IOR_49 (io)
part C pins: E6 CDONE (io) "Configuration Done. Includes a permanent weak pull-up resistor to VCCIO_2. If driving external devices with CDONE output, an external pull-up resistor to VCCIO_2 may be required. Refer to the TN1248, iCE40 Programming and (See Datasheet)", F7 IOB_47_SS_B (io), G4 IOB_34 (io), G5 IOB_42_CBSEL0 (io), G6 IOB_44_SDO (io), G7 IOB_46_SCK (io), H1 IOB_26 (io), H4 IOB_35_GBIN5 (io), H5 IOB_43_CBSEL1 (io), H6 CRESET_B (in) "Configuration Reset, active Low. Dedicated input. No internal pull-up resistor. Either actively drive externally or connect a 10 KOhm pull-up resistor to VCCIO_2.", H7 IOB_45_SDI (io), J1 IOB_28 (io), J2 IOB_27 (io), J3 IOB_29 (io), J4 IOB_32 (io), J6 IOB_36_GBIN4 (io), J7 IOB_41 (io)
part D pins: B1 IOL_2B (io), B2 IOL_1B (io), C1 IOL_2A (io), C2 IOL_1A (io), C3 IOL_3A (io), D1 IOL_4A (io), D2 IOL_3B (io), D3 IOL_6B_GBIN7 (io), E1 IOL_5A (io), E2 IOL_5B (io), E3 IOL_7A_GBIN6 (io), E4 IOL_4B (io), F1 IOL_7B (io), F3 IOL_6A (io), G1 IOL_9A (io), G3 IOL_9B (io)
part E pins: A5 VCCIO_0 (power) "VCCIO - The power supply pins for I/O Bank 0. Dedicated pins. All VCCIOs located in the same bank are tied to the same supply", C6 VCCIO_1 (power) "VCCIO - The power supply pins for I/O Bank 1. Dedicated pins. All VCCIOs located in the same bank are tied to the same supply.", C7 VPP_FAST (power) "Optional fast NVCM programming supply. VPP_FAST, used only for fast production programming, must be left floating or unconnected in applications, except CM36 and CM49 packages MUST have the VPP_FAST ball connected to VCCIO_0 (See Datasheet)", C8 VPP_2V5 (power) "VPP_2V5 NVCM programming and operating supply", D4 VCC (power) "VCC - The power supply pins for core logic. Dedicated pins. It is recommended that all VCCs are tied to the same supply.", E9 VCC (power) "VCC - The power supply pins for core logic. Dedicated pins. It is recommended that all VCCs are tied to the same supply.", F2 VCC (power) "VCC - The power supply pins for core logic. Dedicated pins. It is recommended that all VCCs are tied to the same supply.", F4 GND (power) "GND - Ground. Dedicated pins. It is recommended that all GNDs are tied together.", F5 GND (power) "GND - Ground. Dedicated pins. It is recommended that all GNDs are tied together.", F6 GND (power) "GND - Ground. Dedicated pins. It is recommended that all GNDs are tied together.", F9 GND (power) "GND - Ground. Dedicated pins. It is recommended that all GNDs are tied together.", G2 VCCPLL (power) "PLL VCC - Power. Dedicated pins. The PLL requires a separate power and ground that is quiet and stable to reduce the output clock jitter of the PLL.", H2 GNDPLL (power) "PLL GND - Ground. Dedicated pins. The sysCLOCK PLL has the DC ground connection made on the FPGA, so the external PLL ground connection (GNDPLL) must NOT be connected to the board’s ground.", H3 VCCIO_3 (power) "VCCIO - The power supply pins for I/O Bank 3. Dedicated pins. All VCCIOs located in the same bank are tied to the same supply", H8 VCC_SPI (power) "SPI interface voltage supply input. Must have a valid voltage even if configuring from NVCM.", J5 VCCIO_2 (power) "VCCIO - The power supply pins for I/O Bank 2. Dedicated pins. All VCCIOs located in the same bank are tied to the same supply."
part A text: BANK 0
part B text: BANK 1
part C text: BANK 2
part D text: BANK 3

## ICE40LP1K-CM81TR
designator U?
iCE40 LP1K Series FPGA Family, 1280 Logic Cells, 1.2 V Core, 64 K Embedded RAM Bits, 81-ball ucBGA, Pb-Free, Tape and Reel; Manufacturer: Lattice Semiconductor; PartNumber: ICE40LP1K-CM81TR; Embedded RAM Bits: 64K; Logic Cells: 1280; Phase-Locked Loops: 1; Supply Voltage: 1.2 V; DatasheetVersion: Rev. 02.9; PackageVersion: Rev. 03.9, 02/2013; PackageReference: ucBGA-81; PackageDescription: 81-Ball Ultra Chip Ball Grid Array, Body 4 x 4 mm, Pitch 0.4 mm; Supplier 1: Digi-Key; Supplier Part Number 1: ICE40LP1K-CM81TR-ND; Supplier 2: Mouser; Supplier Part Number 2: 842-ICE40LP1K-CM81TR; Packing: Tape and Reel; RoHS: TRUE; Mounting Technology: Surface Mount; ComponentLink1Description: Manufacturer URL; ComponentLink1URL: http://www.latticesemi.com/en; ComponentLink2Description: Datasheet; ComponentLink2URL: http://www.latticesemi.com/~/media/Documents/DataSheets/iCE/iCE40LPHXFamilyDataSheet.pdf; ComponentLink3Description: Package Specification; ComponentLink3URL: http://www.latticesemi.com/lit/docs/package/pkg.pdf
footprint LATC-ucBGA-81 (BGA, 81-Balls, Body 4x4mm, Pitch 0.4mm)
part A pins: A1 IOT_95 (io), A2 IOT_90 (io), A3 IOT_88 (io), A4 IOT_86 (io), A6 IOT_81 (io), A7 IOT_80 (io), A8 IOT_78 (io), B3 IOT_93 (io), B4 IOT_89 (io), B5 IOT_82 (io), B6 IOT_79 (io), B7 IOT_77 (io), B8 IOT_76 (io), C4 IOT_85_GBIN0 (io), C5 IOT_84_GBIN1 (io), D5 IOT_91 (io), E5 IOT_87 (io)
part B pins: A9 IOR_70 (io), B9 IOR_64 (io), C9 IOR_65 (io), D6 IOR_55 (io), D7 IOR_57 (io), D8 IOR_61_GBIN2 (io), D9 IOR_63 (io), E7 IOR_56 (io), E8 IOR_60_GBIN3 (io), F8 IOR_53 (io), G8 IOR_54 (io), G9 IOR_51 (io), H9 IOR_50 (io), J8 IOR_48 (io), J9 IOR_49 (io)
part C pins: E6 CDONE (io) "Configuration Done. Includes a permanent weak pull-up resistor to VCCIO_2. If driving external devices with CDONE output, an external pull-up resistor to VCCIO_2 may be required. Refer to the TN1248, iCE40 Programming and (See Datasheet)", F7 IOB_47_SS_B (io), G4 IOB_34 (io), G5 IOB_42_CBSEL0 (io), G6 IOB_44_SDO (io), G7 IOB_46_SCK (io), H1 IOB_26 (io), H4 IOB_35_GBIN5 (io), H5 IOB_43_CBSEL1 (io), H6 CRESET_B (in) "Configuration Reset, active Low. Dedicated input. No internal pull-up resistor. Either actively drive externally or connect a 10 KOhm pull-up resistor to VCCIO_2.", H7 IOB_45_SDI (io), J1 IOB_28 (io), J2 IOB_27 (io), J3 IOB_29 (io), J4 IOB_32 (io), J6 IOB_36_GBIN4 (io), J7 IOB_41 (io)
part D pins: B1 IOL_2B (io), B2 IOL_1B (io), C1 IOL_2A (io), C2 IOL_1A (io), C3 IOL_3A (io), D1 IOL_4A (io), D2 IOL_3B (io), D3 IOL_6B_GBIN7 (io), E1 IOL_5A (io), E2 IOL_5B (io), E3 IOL_7A_GBIN6 (io), E4 IOL_4B (io), F1 IOL_7B (io), F3 IOL_6A (io), G1 IOL_9A (io), G3 IOL_9B (io)
part E pins: A5 VCCIO_0 (power) "VCCIO - The power supply pins for I/O Bank 0. Dedicated pins. All VCCIOs located in the same bank are tied to the same supply", C6 VCCIO_1 (power) "VCCIO - The power supply pins for I/O Bank 1. Dedicated pins. All VCCIOs located in the same bank are tied to the same supply.", C7 VPP_FAST (power) "Optional fast NVCM programming supply. VPP_FAST, used only for fast production programming, must be left floating or unconnected in applications, except CM36 and CM49 packages MUST have the VPP_FAST ball connected to VCCIO_0 (See Datasheet)", C8 VPP_2V5 (power) "VPP_2V5 NVCM programming and operating supply", D4 VCC (power) "VCC - The power supply pins for core logic. Dedicated pins. It is recommended that all VCCs are tied to the same supply.", E9 VCC (power) "VCC - The power supply pins for core logic. Dedicated pins. It is recommended that all VCCs are tied to the same supply.", F2 VCC (power) "VCC - The power supply pins for core logic. Dedicated pins. It is recommended that all VCCs are tied to the same supply.", F4 GND (power) "GND - Ground. Dedicated pins. It is recommended that all GNDs are tied together.", F5 GND (power) "GND - Ground. Dedicated pins. It is recommended that all GNDs are tied together.", F6 GND (power) "GND - Ground. Dedicated pins. It is recommended that all GNDs are tied together.", F9 GND (power) "GND - Ground. Dedicated pins. It is recommended that all GNDs are tied together.", G2 VCCPLL (power) "PLL VCC - Power. Dedicated pins. The PLL requires a separate power and ground that is quiet and stable to reduce the output clock jitter of the PLL.", H2 GNDPLL (power) "PLL GND - Ground. Dedicated pins. The sysCLOCK PLL has the DC ground connection made on the FPGA, so the external PLL ground connection (GNDPLL) must NOT be connected to the board’s ground.", H3 VCCIO_3 (power) "VCCIO - The power supply pins for I/O Bank 3. Dedicated pins. All VCCIOs located in the same bank are tied to the same supply", H8 VCC_SPI (power) "SPI interface voltage supply input. Must have a valid voltage even if configuring from NVCM.", J5 VCCIO_2 (power) "VCCIO - The power supply pins for I/O Bank 2. Dedicated pins. All VCCIOs located in the same bank are tied to the same supply."
part A text: BANK 0
part B text: BANK 1
part C text: BANK 2
part D text: BANK 3